# Altium schematic symbol library kmilo17pet-NSC_MiscPower.SchLib: 1552 symbols (part 39 of 43)
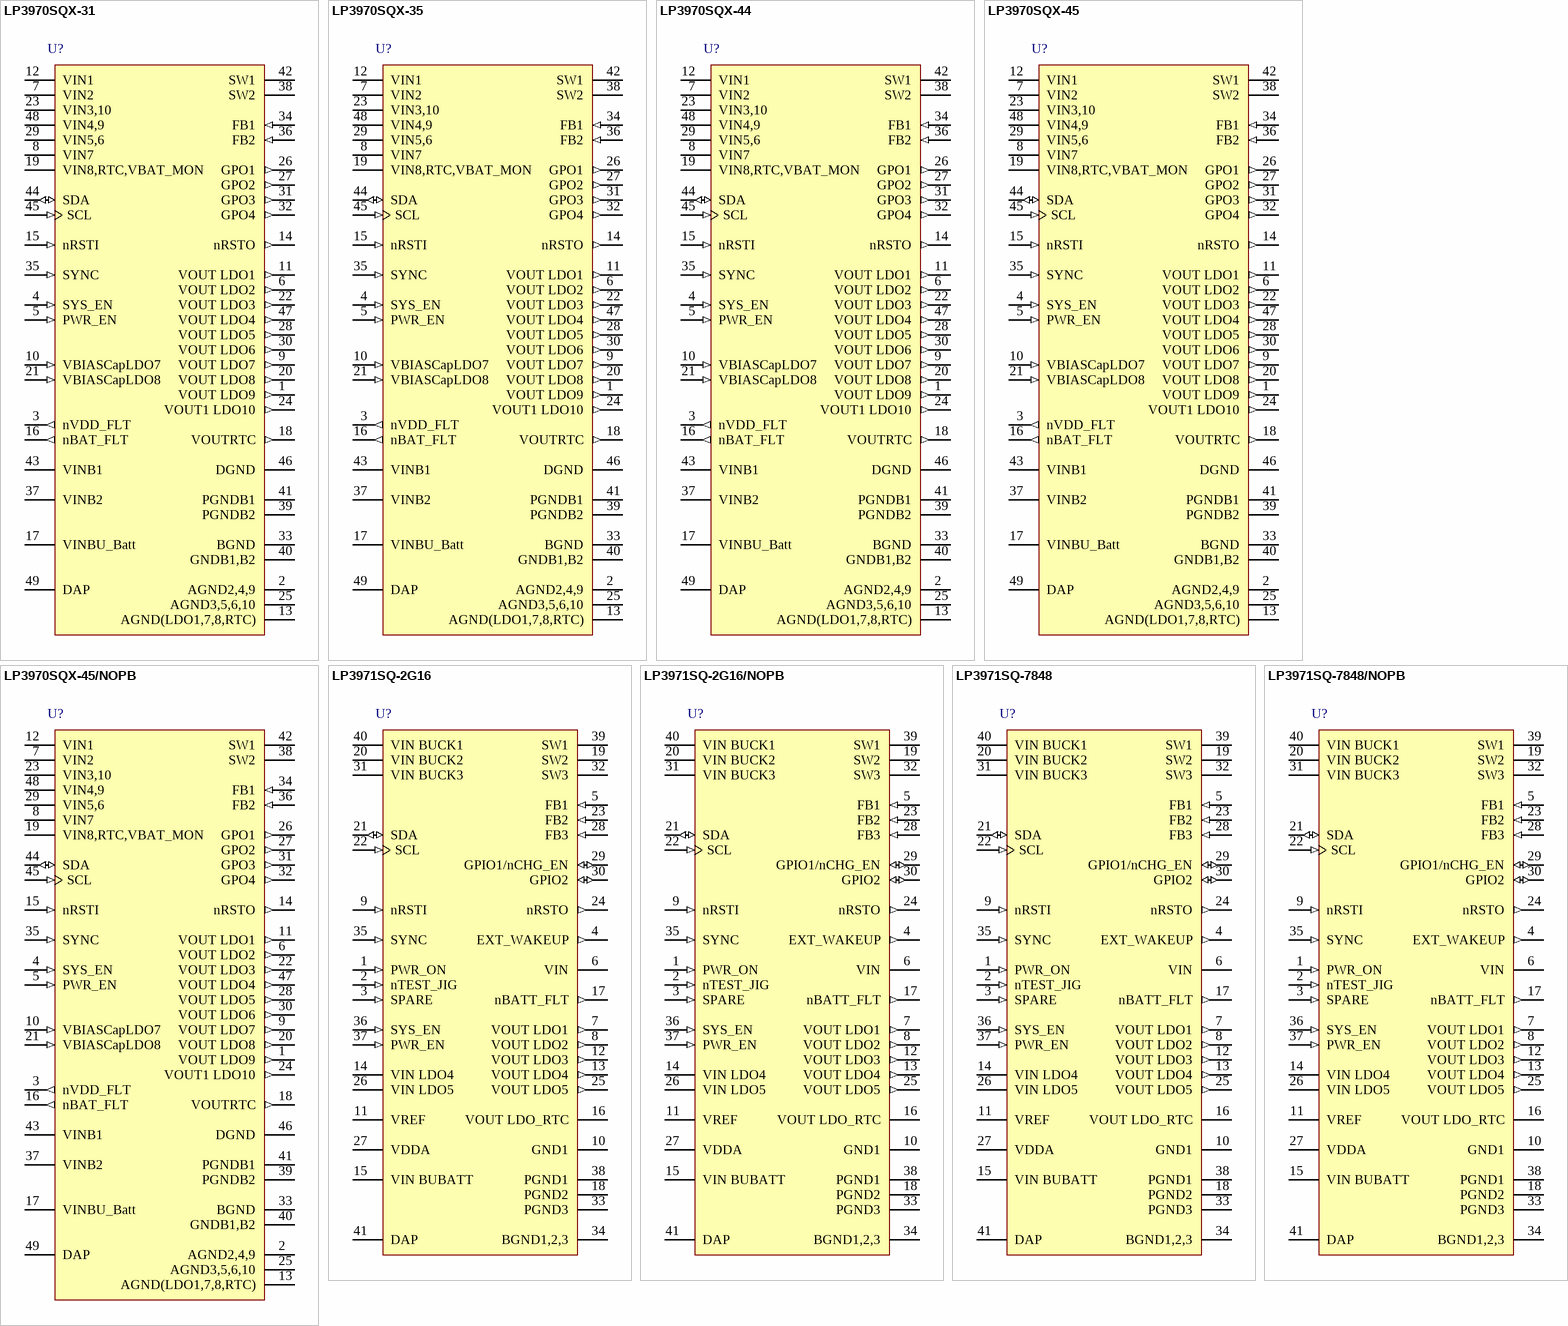
[diagram p95: symbols LP3970SQX-31 to LP3971SQ-7848/NOPB]

## LP3970SQX-31
designator U?
Power Management Unit for Advanced Application Processors, 48-pin LLP; PartNumber: LP3970SQX-31; Manufacturer: National Semiconductor; PackageTopMarking: NS*UZXYTTE#*3970-31; PowerWise: N; CompType: MiscPower; High-Reliability: Y; DatasheetVersion: Aug-2007; PackageVersion: revB, May-2009; PackageReference: SQA48A; PackageDescription: LLP, Plastic, Quad, 7 x 7 x 0.8mm Body, 48 Lead, 0.5mm Pitch, No Pullback; RoHS: N; PinCount: 48; Code_JEDEC: MO-220-WKKD-2; ComponentLink1Description: Manufacturer URL; ComponentLink1URL: http://www.national.com/; ComponentLink2Description: LP3970 Datasheet; ComponentLink2URL: http://www.national.com/ds/LP/LP3970.pdf; ComponentLink3Description: LP3970 Web Page; ComponentLink3URL: http://www.national.com/pf/LP/LP3970.html; ComponentLink4Description: SQA48A Package Page; ComponentLink4URL: http://www.national.com/packaging/folders/sqa48a.html
footprint SQA48A (QFN, 48-Leads, Body 7x7mm, Pitch 0.5mm, Thermal Pad 5.2x5.2mm, NSC Recommended)
pins: 1 VOUT LDO9 (out), 2 AGND2,4,9 (power), 3 nVDD_FLT (out), 4 SYS_EN (in), 5 PWR_EN (in), 6 VOUT LDO2 (out), 7 VIN2 (power), 8 VIN7 (power), 9 VOUT LDO7 (out), 10 VBIASCapLDO7 (in), 11 VOUT LDO1 (out), 12 VIN1 (power), 13 AGND(LDO1,7,8,RTC) (power), 14 nRSTO (out), 15 nRSTI (in), 16 nBAT_FLT (out), 17 VINBU_Batt (power), 18 VOUTRTC (out), 19 VIN8,RTC,VBAT_MON (power), 20 VOUT LDO8 (out), 21 VBIASCapLDO8 (in), 22 VOUT LDO3 (out), 23 VIN3,10 (power), 24 VOUT1 LDO10 (out), 25 AGND3,5,6,10 (power), 26 GPO1 (out), 27 GPO2 (out), 28 VOUT LDO5 (out), 29 VIN5,6 (power), 30 VOUT LDO6 (out), 31 GPO3 (out), 32 GPO4 (out), 33 BGND (power), 34 FB1 (in), 35 SYNC (in), 36 FB2 (in), 37 VINB2 (power), 38 SW2 (power), 39 PGNDB2 (power), 40 GNDB1,B2 (power), 41 PGNDB1 (power), 42 SW1 (power), 43 VINB1 (power), 44 SDA (io), 45 SCL (in), 46 DGND (power), 47 VOUT LDO4 (out), 48 VIN4,9 (power), 49 DAP (power)

## LP3970SQX-35
designator U?
Power Management Unit for Advanced Application Processors, 48-pin LLP; PartNumber: LP3970SQX-35; Manufacturer: National Semiconductor; PackageTopMarking: NS*UZXYTTE#*3970-35; PowerWise: N; CompType: MiscPower; High-Reliability: Y; DatasheetVersion: Aug-2007; PackageVersion: revB, May-2009; PackageReference: SQA48A; PackageDescription: LLP, Plastic, Quad, 7 x 7 x 0.8mm Body, 48 Lead, 0.5mm Pitch, No Pullback; RoHS: N; PinCount: 48; Code_JEDEC: MO-220-WKKD-2; ComponentLink1Description: Manufacturer URL; ComponentLink1URL: http://www.national.com/; ComponentLink2Description: LP3970 Datasheet; ComponentLink2URL: http://www.national.com/ds/LP/LP3970.pdf; ComponentLink3Description: LP3970 Web Page; ComponentLink3URL: http://www.national.com/pf/LP/LP3970.html; ComponentLink4Description: SQA48A Package Page; ComponentLink4URL: http://www.national.com/packaging/folders/sqa48a.html
footprint SQA48A (QFN, 48-Leads, Body 7x7mm, Pitch 0.5mm, Thermal Pad 5.2x5.2mm, NSC Recommended)
pins: 1 VOUT LDO9 (out), 2 AGND2,4,9 (power), 3 nVDD_FLT (out), 4 SYS_EN (in), 5 PWR_EN (in), 6 VOUT LDO2 (out), 7 VIN2 (power), 8 VIN7 (power), 9 VOUT LDO7 (out), 10 VBIASCapLDO7 (in), 11 VOUT LDO1 (out), 12 VIN1 (power), 13 AGND(LDO1,7,8,RTC) (power), 14 nRSTO (out), 15 nRSTI (in), 16 nBAT_FLT (out), 17 VINBU_Batt (power), 18 VOUTRTC (out), 19 VIN8,RTC,VBAT_MON (power), 20 VOUT LDO8 (out), 21 VBIASCapLDO8 (in), 22 VOUT LDO3 (out), 23 VIN3,10 (power), 24 VOUT1 LDO10 (out), 25 AGND3,5,6,10 (power), 26 GPO1 (out), 27 GPO2 (out), 28 VOUT LDO5 (out), 29 VIN5,6 (power), 30 VOUT LDO6 (out), 31 GPO3 (out), 32 GPO4 (out), 33 BGND (power), 34 FB1 (in), 35 SYNC (in), 36 FB2 (in), 37 VINB2 (power), 38 SW2 (power), 39 PGNDB2 (power), 40 GNDB1,B2 (power), 41 PGNDB1 (power), 42 SW1 (power), 43 VINB1 (power), 44 SDA (io), 45 SCL (in), 46 DGND (power), 47 VOUT LDO4 (out), 48 VIN4,9 (power), 49 DAP (power)

## LP3970SQX-44
designator U?
Power Management Unit for Advanced Application Processors, 48-pin LLP; PartNumber: LP3970SQX-44; Manufacturer: National Semiconductor; PackageTopMarking: NS*UZXYTTE#*3970-44; PowerWise: N; CompType: MiscPower; High-Reliability: Y; DatasheetVersion: Aug-2007; PackageVersion: revB, May-2009; PackageReference: SQA48A; PackageDescription: LLP, Plastic, Quad, 7 x 7 x 0.8mm Body, 48 Lead, 0.5mm Pitch, No Pullback; RoHS: N; PinCount: 48; Code_JEDEC: MO-220-WKKD-2; ComponentLink1Description: Manufacturer URL; ComponentLink1URL: http://www.national.com/; ComponentLink2Description: LP3970 Datasheet; ComponentLink2URL: http://www.national.com/ds/LP/LP3970.pdf; ComponentLink3Description: LP3970 Web Page; ComponentLink3URL: http://www.national.com/pf/LP/LP3970.html; ComponentLink4Description: SQA48A Package Page; ComponentLink4URL: http://www.national.com/packaging/folders/sqa48a.html
footprint SQA48A (QFN, 48-Leads, Body 7x7mm, Pitch 0.5mm, Thermal Pad 5.2x5.2mm, NSC Recommended)
pins: 1 VOUT LDO9 (out), 2 AGND2,4,9 (power), 3 nVDD_FLT (out), 4 SYS_EN (in), 5 PWR_EN (in), 6 VOUT LDO2 (out), 7 VIN2 (power), 8 VIN7 (power), 9 VOUT LDO7 (out), 10 VBIASCapLDO7 (in), 11 VOUT LDO1 (out), 12 VIN1 (power), 13 AGND(LDO1,7,8,RTC) (power), 14 nRSTO (out), 15 nRSTI (in), 16 nBAT_FLT (out), 17 VINBU_Batt (power), 18 VOUTRTC (out), 19 VIN8,RTC,VBAT_MON (power), 20 VOUT LDO8 (out), 21 VBIASCapLDO8 (in), 22 VOUT LDO3 (out), 23 VIN3,10 (power), 24 VOUT1 LDO10 (out), 25 AGND3,5,6,10 (power), 26 GPO1 (out), 27 GPO2 (out), 28 VOUT LDO5 (out), 29 VIN5,6 (power), 30 VOUT LDO6 (out), 31 GPO3 (out), 32 GPO4 (out), 33 BGND (power), 34 FB1 (in), 35 SYNC (in), 36 FB2 (in), 37 VINB2 (power), 38 SW2 (power), 39 PGNDB2 (power), 40 GNDB1,B2 (power), 41 PGNDB1 (power), 42 SW1 (power), 43 VINB1 (power), 44 SDA (io), 45 SCL (in), 46 DGND (power), 47 VOUT LDO4 (out), 48 VIN4,9 (power), 49 DAP (power)

## LP3970SQX-45
designator U?
Power Management Unit for Advanced Application Processors, 48-pin LLP; PartNumber: LP3970SQX-45; Manufacturer: National Semiconductor; PackageTopMarking: NS*UZXYTTE#*3970-45; PowerWise: N; CompType: MiscPower; High-Reliability: Y; DatasheetVersion: Aug-2007; PackageVersion: revB, May-2009; PackageReference: SQA48A; PackageDescription: LLP, Plastic, Quad, 7 x 7 x 0.8mm Body, 48 Lead, 0.5mm Pitch, No Pullback; RoHS: N; PinCount: 48; Code_JEDEC: MO-220-WKKD-2; ComponentLink1Description: Manufacturer URL; ComponentLink1URL: http://www.national.com/; ComponentLink2Description: LP3970 Datasheet; ComponentLink2URL: http://www.national.com/ds/LP/LP3970.pdf; ComponentLink3Description: LP3970 Web Page; ComponentLink3URL: http://www.national.com/pf/LP/LP3970.html; ComponentLink4Description: SQA48A Package Page; ComponentLink4URL: http://www.national.com/packaging/folders/sqa48a.html
footprint SQA48A (QFN, 48-Leads, Body 7x7mm, Pitch 0.5mm, Thermal Pad 5.2x5.2mm, NSC Recommended)
pins: 1 VOUT LDO9 (out), 2 AGND2,4,9 (power), 3 nVDD_FLT (out), 4 SYS_EN (in), 5 PWR_EN (in), 6 VOUT LDO2 (out), 7 VIN2 (power), 8 VIN7 (power), 9 VOUT LDO7 (out), 10 VBIASCapLDO7 (in), 11 VOUT LDO1 (out), 12 VIN1 (power), 13 AGND(LDO1,7,8,RTC) (power), 14 nRSTO (out), 15 nRSTI (in), 16 nBAT_FLT (out), 17 VINBU_Batt (power), 18 VOUTRTC (out), 19 VIN8,RTC,VBAT_MON (power), 20 VOUT LDO8 (out), 21 VBIASCapLDO8 (in), 22 VOUT LDO3 (out), 23 VIN3,10 (power), 24 VOUT1 LDO10 (out), 25 AGND3,5,6,10 (power), 26 GPO1 (out), 27 GPO2 (out), 28 VOUT LDO5 (out), 29 VIN5,6 (power), 30 VOUT LDO6 (out), 31 GPO3 (out), 32 GPO4 (out), 33 BGND (power), 34 FB1 (in), 35 SYNC (in), 36 FB2 (in), 37 VINB2 (power), 38 SW2 (power), 39 PGNDB2 (power), 40 GNDB1,B2 (power), 41 PGNDB1 (power), 42 SW1 (power), 43 VINB1 (power), 44 SDA (io), 45 SCL (in), 46 DGND (power), 47 VOUT LDO4 (out), 48 VIN4,9 (power), 49 DAP (power)

## LP3970SQX-45/NOPB
designator U?
Power Management Unit for Advanced Application Processors, 48-pin LLP, Pb-Free; PartNumber: LP3970SQX-45/NOPB; Manufacturer: National Semiconductor; PackageTopMarking: NS*UZXYTTE#*3970-45; PowerWise: N; CompType: MiscPower; High-Reliability: Y; DatasheetVersion: Aug-2007; PackageVersion: revB, May-2009; PackageReference: SQA48A; PackageDescription: LLP, Plastic, Quad, 7 x 7 x 0.8mm Body, 48 Lead, 0.5mm Pitch, No Pullback; RoHS: Y; PinCount: 48; Code_JEDEC: MO-220-WKKD-2; ComponentLink1Description: Manufacturer URL; ComponentLink1URL: http://www.national.com/; ComponentLink2Description: LP3970 Datasheet; ComponentLink2URL: http://www.national.com/ds/LP/LP3970.pdf; ComponentLink3Description: LP3970 Web Page; ComponentLink3URL: http://www.national.com/pf/LP/LP3970.html; ComponentLink4Description: SQA48A Package Page; ComponentLink4URL: http://www.national.com/packaging/folders/sqa48a.html
footprint SQA48A (QFN, 48-Leads, Body 7x7mm, Pitch 0.5mm, Thermal Pad 5.2x5.2mm, NSC Recommended)
pins: 1 VOUT LDO9 (out), 2 AGND2,4,9 (power), 3 nVDD_FLT (out), 4 SYS_EN (in), 5 PWR_EN (in), 6 VOUT LDO2 (out), 7 VIN2 (power), 8 VIN7 (power), 9 VOUT LDO7 (out), 10 VBIASCapLDO7 (in), 11 VOUT LDO1 (out), 12 VIN1 (power), 13 AGND(LDO1,7,8,RTC) (power), 14 nRSTO (out), 15 nRSTI (in), 16 nBAT_FLT (out), 17 VINBU_Batt (power), 18 VOUTRTC (out), 19 VIN8,RTC,VBAT_MON (power), 20 VOUT LDO8 (out), 21 VBIASCapLDO8 (in), 22 VOUT LDO3 (out), 23 VIN3,10 (power), 24 VOUT1 LDO10 (out), 25 AGND3,5,6,10 (power), 26 GPO1 (out), 27 GPO2 (out), 28 VOUT LDO5 (out), 29 VIN5,6 (power), 30 VOUT LDO6 (out), 31 GPO3 (out), 32 GPO4 (out), 33 BGND (power), 34 FB1 (in), 35 SYNC (in), 36 FB2 (in), 37 VINB2 (power), 38 SW2 (power), 39 PGNDB2 (power), 40 GNDB1,B2 (power), 41 PGNDB1 (power), 42 SW1 (power), 43 VINB1 (power), 44 SDA (io), 45 SCL (in), 46 DGND (power), 47 VOUT LDO4 (out), 48 VIN4,9 (power), 49 DAP (power)

## LP3971SQ-2G16
designator U?
Power Management Unit for Advanced Application Processor, 40-pin LLP; PartNumber: LP3971SQ-2G16; Manufacturer: National Semiconductor; PackageTopMarking: NS*UZXYTT*71-2G16; PowerWise: N; CompType: MiscPower; High-Reliability: Y; DatasheetVersion: Oct-2008; PackageVersion: revB, Jul-2004; PackageReference: SQF40A; PackageDescription: LLP, Quad, 5 x 5 x 0.8mm Body, 40 Lead, 0.4mm Pitch, 3.6 x 3.6mm Exposed Pad; RoHS: Y; PinCount: 40; ComponentLink1Description: Manufacturer URL; ComponentLink1URL: http://www.national.com/; ComponentLink2Description: LP3971 Datasheet; ComponentLink2URL: http://www.national.com/ds/LP/LP3971.pdf; ComponentLink3Description: LP3971 Web Page; ComponentLink3URL: http://www.national.com/pf/LP/LP3971.html; ComponentLink4Description: SQF40A Package Page; ComponentLink4URL: http://www.national.com/packaging/folders/sqf40a.html
footprint SQF40A (QFN, 41-Leads, Body 5x5mm, Pitch 0.4mm, Thermal Pad 3.6x3.6mm, NSC Recommended)
pins: 1 PWR_ON (in), 2 nTEST_JIG (in), 3 SPARE (in), 4 EXT_WAKEUP (out), 5 FB1 (in), 6 VIN (power), 7 VOUT LDO1 (out), 8 VOUT LDO2 (out), 9 nRSTI (in), 10 GND1 (power), 11 VREF, 12 VOUT LDO3 (out), 13 VOUT LDO4 (out), 14 VIN LDO4 (power), 15 VIN BUBATT (power), 16 VOUT LDO_RTC (power), 17 nBATT_FLT (out), 18 PGND2 (power), 19 SW2 (power), 20 VIN BUCK2 (power), 21 SDA (io), 22 SCL (in), 23 FB2 (in), 24 nRSTO (out), 25 VOUT LDO5 (out), 26 VIN LDO5 (power), 27 VDDA (power), 28 FB3 (in), 29 GPIO1/nCHG_EN (io), 30 GPIO2 (io), 31 VIN BUCK3 (power), 32 SW3 (power), 33 PGND3 (power), 34 BGND1,2,3 (power), 35 SYNC (in), 36 SYS_EN (in), 37 PWR_EN (in), 38 PGND1 (power), 39 SW1 (power), 40 VIN BUCK1 (power), 41 DAP (power)

## LP3971SQ-2G16/NOPB
designator U?
Power Management Unit for Advanced Application Processors, 40-pin LLP, Pb-Free; PartNumber: LP3971SQ-2G16/NOPB; Manufacturer: National Semiconductor; PackageTopMarking: NS*UZXYTT*71-2G16; PowerWise: N; CompType: MiscPower; High-Reliability: Y; DatasheetVersion: Oct-2008; PackageVersion: revB, Jul-2004; PackageReference: SQF40A; PackageDescription: LLP, Quad, 5 x 5 x 0.8mm Body, 40 Lead, 0.4mm Pitch, 3.6 x 3.6mm Exposed Pad; RoHS: Y; PinCount: 40; ComponentLink1Description: Manufacturer URL; ComponentLink1URL: http://www.national.com/; ComponentLink2Description: LP3971 Datasheet; ComponentLink2URL: http://www.national.com/ds/LP/LP3971.pdf; ComponentLink3Description: LP3971 Web Page; ComponentLink3URL: http://www.national.com/pf/LP/LP3971.html; ComponentLink4Description: SQF40A Package Page; ComponentLink4URL: http://www.national.com/packaging/folders/sqf40a.html
footprint SQF40A (QFN, 41-Leads, Body 5x5mm, Pitch 0.4mm, Thermal Pad 3.6x3.6mm, NSC Recommended)
pins: 1 PWR_ON (in), 2 nTEST_JIG (in), 3 SPARE (in), 4 EXT_WAKEUP (out), 5 FB1 (in), 6 VIN (power), 7 VOUT LDO1 (out), 8 VOUT LDO2 (out), 9 nRSTI (in), 10 GND1 (power), 11 VREF, 12 VOUT LDO3 (out), 13 VOUT LDO4 (out), 14 VIN LDO4 (power), 15 VIN BUBATT (power), 16 VOUT LDO_RTC (power), 17 nBATT_FLT (out), 18 PGND2 (power), 19 SW2 (power), 20 VIN BUCK2 (power), 21 SDA (io), 22 SCL (in), 23 FB2 (in), 24 nRSTO (out), 25 VOUT LDO5 (out), 26 VIN LDO5 (power), 27 VDDA (power), 28 FB3 (in), 29 GPIO1/nCHG_EN (io), 30 GPIO2 (io), 31 VIN BUCK3 (power), 32 SW3 (power), 33 PGND3 (power), 34 BGND1,2,3 (power), 35 SYNC (in), 36 SYS_EN (in), 37 PWR_EN (in), 38 PGND1 (power), 39 SW1 (power), 40 VIN BUCK1 (power), 41 DAP (power)

## LP3971SQ-7848
designator U?
Power Management Unit for Advanced Application Processor, 40-pin LLP; PartNumber: LP3971SQ-7848; Manufacturer: National Semiconductor; PackageTopMarking: NS*UZXYTT*71-7848; PowerWise: N; CompType: MiscPower; High-Reliability: Y; DatasheetVersion: Oct-2008; PackageVersion: revB, Jul-2004; PackageReference: SQF40A; PackageDescription: LLP, Quad, 5 x 5 x 0.8mm Body, 40 Lead, 0.4mm Pitch, 3.6 x 3.6mm Exposed Pad; RoHS: Y; PinCount: 40; ComponentLink1Description: Manufacturer URL; ComponentLink1URL: http://www.national.com/; ComponentLink2Description: LP3971 Datasheet; ComponentLink2URL: http://www.national.com/ds/LP/LP3971.pdf; ComponentLink3Description: LP3971 Web Page; ComponentLink3URL: http://www.national.com/pf/LP/LP3971.html; ComponentLink4Description: SQF40A Package Page; ComponentLink4URL: http://www.national.com/packaging/folders/sqf40a.html
footprint SQF40A (QFN, 41-Leads, Body 5x5mm, Pitch 0.4mm, Thermal Pad 3.6x3.6mm, NSC Recommended)
pins: 1 PWR_ON (in), 2 nTEST_JIG (in), 3 SPARE (in), 4 EXT_WAKEUP (out), 5 FB1 (in), 6 VIN (power), 7 VOUT LDO1 (out), 8 VOUT LDO2 (out), 9 nRSTI (in), 10 GND1 (power), 11 VREF, 12 VOUT LDO3 (out), 13 VOUT LDO4 (out), 14 VIN LDO4 (power), 15 VIN BUBATT (power), 16 VOUT LDO_RTC (power), 17 nBATT_FLT (out), 18 PGND2 (power), 19 SW2 (power), 20 VIN BUCK2 (power), 21 SDA (io), 22 SCL (in), 23 FB2 (in), 24 nRSTO (out), 25 VOUT LDO5 (out), 26 VIN LDO5 (power), 27 VDDA (power), 28 FB3 (in), 29 GPIO1/nCHG_EN (io), 30 GPIO2 (io), 31 VIN BUCK3 (power), 32 SW3 (power), 33 PGND3 (power), 34 BGND1,2,3 (power), 35 SYNC (in), 36 SYS_EN (in), 37 PWR_EN (in), 38 PGND1 (power), 39 SW1 (power), 40 VIN BUCK1 (power), 41 DAP (power)

## LP3971SQ-7848/NOPB
designator U?
Power Management Unit for Advanced Application Processors, 40-pin LLP, Pb-Free; PartNumber: LP3971SQ-7848/NOPB; Manufacturer: National Semiconductor; PackageTopMarking: NS*UZXYTT*71-7848; PowerWise: N; CompType: MiscPower; High-Reliability: Y; DatasheetVersion: Oct-2008; PackageVersion: revB, Jul-2004; PackageReference: SQF40A; PackageDescription: LLP, Quad, 5 x 5 x 0.8mm Body, 40 Lead, 0.4mm Pitch, 3.6 x 3.6mm Exposed Pad; RoHS: Y; PinCount: 40; ComponentLink1Description: Manufacturer URL; ComponentLink1URL: http://www.national.com/; ComponentLink2Description: LP3971 Datasheet; ComponentLink2URL: http://www.national.com/ds/LP/LP3971.pdf; ComponentLink3Description: LP3971 Web Page; ComponentLink3URL: http://www.national.com/pf/LP/LP3971.html; ComponentLink4Description: SQF40A Package Page; ComponentLink4URL: http://www.national.com/packaging/folders/sqf40a.html
footprint SQF40A (QFN, 41-Leads, Body 5x5mm, Pitch 0.4mm, Thermal Pad 3.6x3.6mm, NSC Recommended)
pins: 1 PWR_ON (in), 2 nTEST_JIG (in), 3 SPARE (in), 4 EXT_WAKEUP (out), 5 FB1 (in), 6 VIN (power), 7 VOUT LDO1 (out), 8 VOUT LDO2 (out), 9 nRSTI (in), 10 GND1 (power), 11 VREF, 12 VOUT LDO3 (out), 13 VOUT LDO4 (out), 14 VIN LDO4 (power), 15 VIN BUBATT (power), 16 VOUT LDO_RTC (power), 17 nBATT_FLT (out), 18 PGND2 (power), 19 SW2 (power), 20 VIN BUCK2 (power), 21 SDA (io), 22 SCL (in), 23 FB2 (in), 24 nRSTO (out), 25 VOUT LDO5 (out), 26 VIN LDO5 (power), 27 VDDA (power), 28 FB3 (in), 29 GPIO1/nCHG_EN (io), 30 GPIO2 (io), 31 VIN BUCK3 (power), 32 SW3 (power), 33 PGND3 (power), 34 BGND1,2,3 (power), 35 SYNC (in), 36 SYS_EN (in), 37 PWR_EN (in), 38 PGND1 (power), 39 SW1 (power), 40 VIN BUCK1 (power), 41 DAP (power)

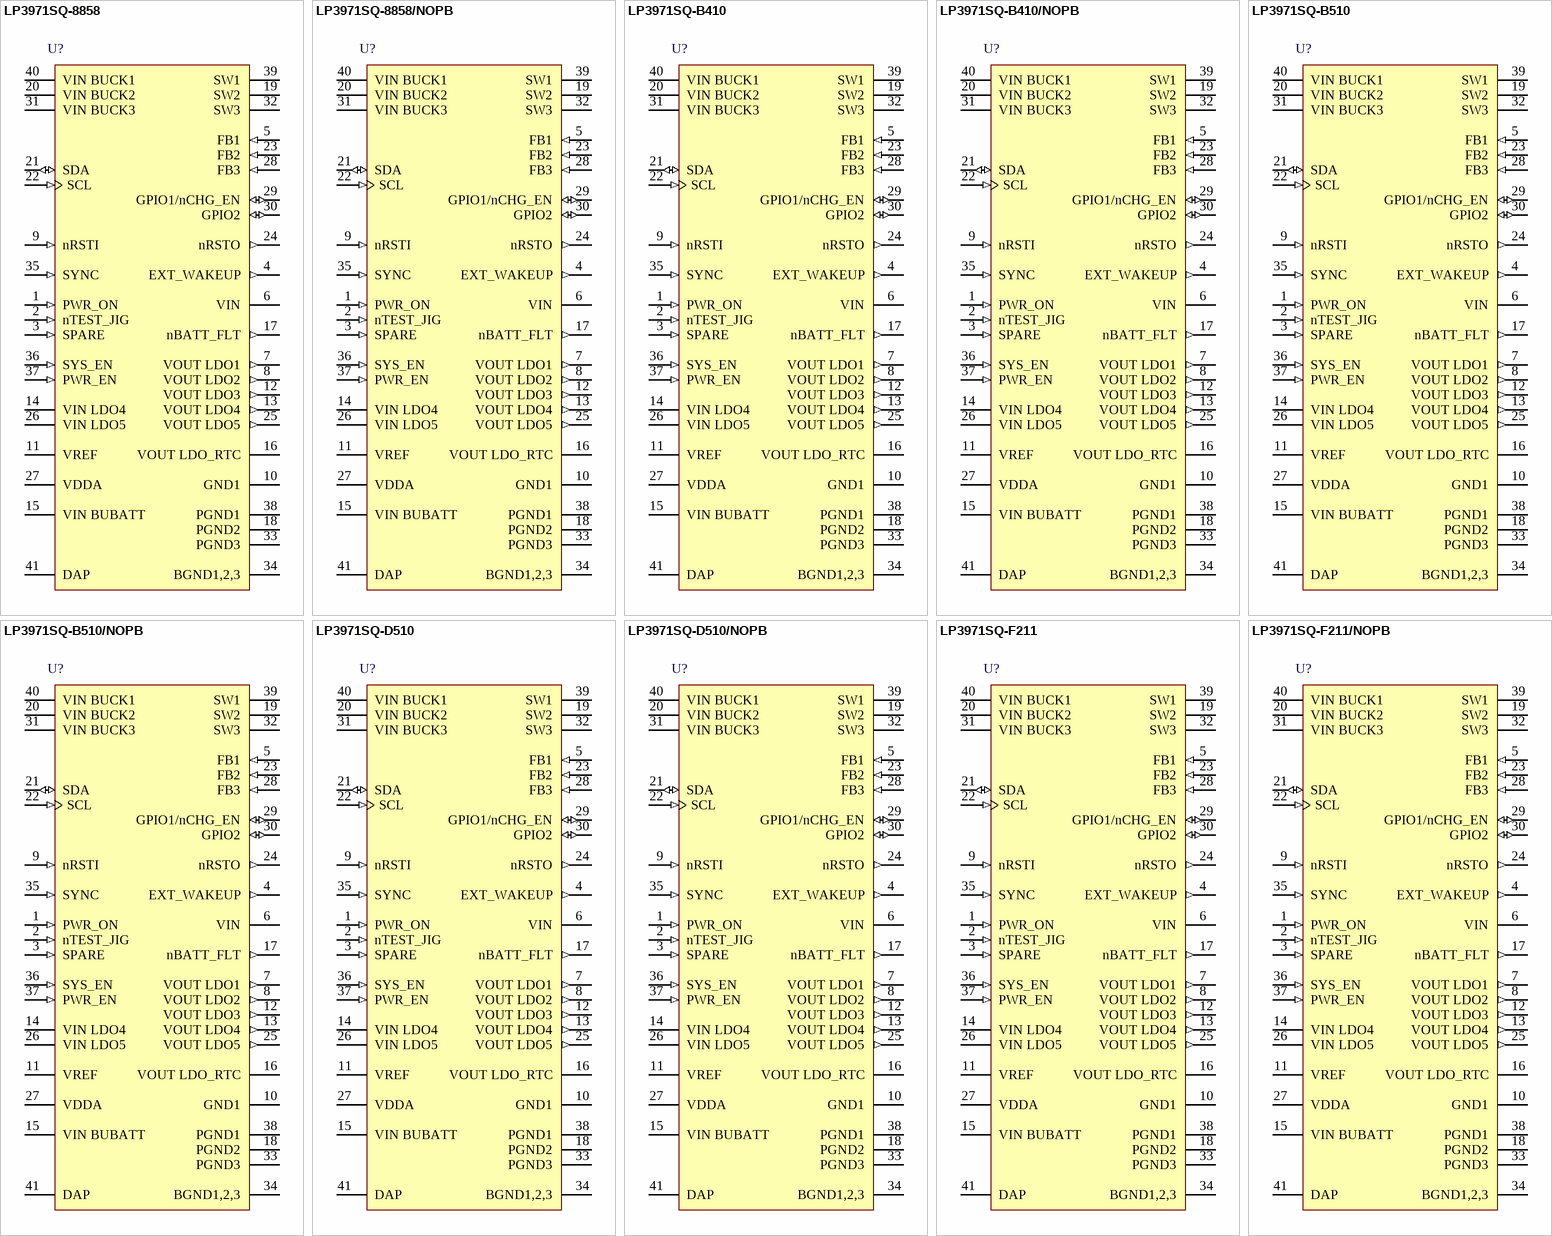
[diagram p48: symbols LP3971SQ-8858 to LP3971SQ-F211/NOPB]

## LP3971SQ-8858
designator U?
Power Management Unit for Advanced Application Processor, 40-pin LLP; PartNumber: LP3971SQ-8858; Manufacturer: National Semiconductor; PackageTopMarking: NS*UZXYTT*71-8858; PowerWise: N; CompType: MiscPower; High-Reliability: Y; DatasheetVersion: Oct-2008; PackageVersion: revB, Jul-2004; PackageReference: SQF40A; PackageDescription: LLP, Quad, 5 x 5 x 0.8mm Body, 40 Lead, 0.4mm Pitch, 3.6 x 3.6mm Exposed Pad; RoHS: Y; PinCount: 40; ComponentLink1Description: Manufacturer URL; ComponentLink1URL: http://www.national.com/; ComponentLink2Description: LP3971 Datasheet; ComponentLink2URL: http://www.national.com/ds/LP/LP3971.pdf; ComponentLink3Description: LP3971 Web Page; ComponentLink3URL: http://www.national.com/pf/LP/LP3971.html; ComponentLink4Description: SQF40A Package Page; ComponentLink4URL: http://www.national.com/packaging/folders/sqf40a.html
footprint SQF40A (QFN, 41-Leads, Body 5x5mm, Pitch 0.4mm, Thermal Pad 3.6x3.6mm, NSC Recommended)
pins: 1 PWR_ON (in), 2 nTEST_JIG (in), 3 SPARE (in), 4 EXT_WAKEUP (out), 5 FB1 (in), 6 VIN (power), 7 VOUT LDO1 (out), 8 VOUT LDO2 (out), 9 nRSTI (in), 10 GND1 (power), 11 VREF, 12 VOUT LDO3 (out), 13 VOUT LDO4 (out), 14 VIN LDO4 (power), 15 VIN BUBATT (power), 16 VOUT LDO_RTC (power), 17 nBATT_FLT (out), 18 PGND2 (power), 19 SW2 (power), 20 VIN BUCK2 (power), 21 SDA (io), 22 SCL (in), 23 FB2 (in), 24 nRSTO (out), 25 VOUT LDO5 (out), 26 VIN LDO5 (power), 27 VDDA (power), 28 FB3 (in), 29 GPIO1/nCHG_EN (io), 30 GPIO2 (io), 31 VIN BUCK3 (power), 32 SW3 (power), 33 PGND3 (power), 34 BGND1,2,3 (power), 35 SYNC (in), 36 SYS_EN (in), 37 PWR_EN (in), 38 PGND1 (power), 39 SW1 (power), 40 VIN BUCK1 (power), 41 DAP (power)

## LP3971SQ-8858/NOPB
designator U?
Power Management Unit for Advanced Application Processors, 40-pin LLP, Pb-Free; PartNumber: LP3971SQ-8858/NOPB; Manufacturer: National Semiconductor; PackageTopMarking: NS*UZXYTT*71-8858; PowerWise: N; CompType: MiscPower; High-Reliability: Y; DatasheetVersion: Oct-2008; PackageVersion: revB, Jul-2004; PackageReference: SQF40A; PackageDescription: LLP, Quad, 5 x 5 x 0.8mm Body, 40 Lead, 0.4mm Pitch, 3.6 x 3.6mm Exposed Pad; RoHS: Y; PinCount: 40; ComponentLink1Description: Manufacturer URL; ComponentLink1URL: http://www.national.com/; ComponentLink2Description: LP3971 Datasheet; ComponentLink2URL: http://www.national.com/ds/LP/LP3971.pdf; ComponentLink3Description: LP3971 Web Page; ComponentLink3URL: http://www.national.com/pf/LP/LP3971.html; ComponentLink4Description: SQF40A Package Page; ComponentLink4URL: http://www.national.com/packaging/folders/sqf40a.html
footprint SQF40A (QFN, 41-Leads, Body 5x5mm, Pitch 0.4mm, Thermal Pad 3.6x3.6mm, NSC Recommended)
pins: 1 PWR_ON (in), 2 nTEST_JIG (in), 3 SPARE (in), 4 EXT_WAKEUP (out), 5 FB1 (in), 6 VIN (power), 7 VOUT LDO1 (out), 8 VOUT LDO2 (out), 9 nRSTI (in), 10 GND1 (power), 11 VREF, 12 VOUT LDO3 (out), 13 VOUT LDO4 (out), 14 VIN LDO4 (power), 15 VIN BUBATT (power), 16 VOUT LDO_RTC (power), 17 nBATT_FLT (out), 18 PGND2 (power), 19 SW2 (power), 20 VIN BUCK2 (power), 21 SDA (io), 22 SCL (in), 23 FB2 (in), 24 nRSTO (out), 25 VOUT LDO5 (out), 26 VIN LDO5 (power), 27 VDDA (power), 28 FB3 (in), 29 GPIO1/nCHG_EN (io), 30 GPIO2 (io), 31 VIN BUCK3 (power), 32 SW3 (power), 33 PGND3 (power), 34 BGND1,2,3 (power), 35 SYNC (in), 36 SYS_EN (in), 37 PWR_EN (in), 38 PGND1 (power), 39 SW1 (power), 40 VIN BUCK1 (power), 41 DAP (power)

## LP3971SQ-B410
designator U?
Power Management Unit for Advanced Application Processor, 40-pin LLP; PartNumber: LP3971SQ-B410; Manufacturer: National Semiconductor; PackageTopMarking: NS*UZXYTT*71-B410; PowerWise: Y; CompType: MiscPower; DatasheetVersion: Oct-2008; PackageVersion: revB, Jul-2004; PackageReference: SQF40A; PackageDescription: LLP, Quad, 5 x 5 x 0.8mm Body, 40 Lead, 0.4mm Pitch, 3.6 x 3.6mm Exposed Pad; RoHS: N; PinCount: 40; High-Reliability: Y; ComponentLink1Description: Manufacturer URL; ComponentLink1URL: http://www.national.com/; ComponentLink2Description: LP3971 Datasheet; ComponentLink2URL: http://www.national.com/ds/LP/LP3971.pdf; ComponentLink3Description: LP3971 Web Page; ComponentLink3URL: http://www.national.com/pf/LP/LP3971.html; ComponentLink4Description: SQF40A Package Page; ComponentLink4URL: http://www.national.com/packaging/folders/sqf40a.html
footprint SQF40A (QFN, 41-Leads, Body 5x5mm, Pitch 0.4mm, Thermal Pad 3.6x3.6mm, NSC Recommended)
pins: 1 PWR_ON (in), 2 nTEST_JIG (in), 3 SPARE (in), 4 EXT_WAKEUP (out), 5 FB1 (in), 6 VIN (power), 7 VOUT LDO1 (out), 8 VOUT LDO2 (out), 9 nRSTI (in), 10 GND1 (power), 11 VREF, 12 VOUT LDO3 (out), 13 VOUT LDO4 (out), 14 VIN LDO4 (power), 15 VIN BUBATT (power), 16 VOUT LDO_RTC (power), 17 nBATT_FLT (out), 18 PGND2 (power), 19 SW2 (power), 20 VIN BUCK2 (power), 21 SDA (io), 22 SCL (in), 23 FB2 (in), 24 nRSTO (out), 25 VOUT LDO5 (out), 26 VIN LDO5 (power), 27 VDDA (power), 28 FB3 (in), 29 GPIO1/nCHG_EN (io), 30 GPIO2 (io), 31 VIN BUCK3 (power), 32 SW3 (power), 33 PGND3 (power), 34 BGND1,2,3 (power), 35 SYNC (in), 36 SYS_EN (in), 37 PWR_EN (in), 38 PGND1 (power), 39 SW1 (power), 40 VIN BUCK1 (power), 41 DAP (power)

## LP3971SQ-B410/NOPB
designator U?
Power Management Unit for Advanced Application Processors, 40-pin LLP, Pb-Free; PartNumber: LP3971SQ-B410/NOPB; Manufacturer: National Semiconductor; PackageTopMarking: NS*UZXYTT*71-B410; PowerWise: Y; CompType: MiscPower; DatasheetVersion: Oct-2008; PackageVersion: revB, Jul-2004; PackageReference: SQF40A; PackageDescription: LLP, Quad, 5 x 5 x 0.8mm Body, 40 Lead, 0.4mm Pitch, 3.6 x 3.6mm Exposed Pad; RoHS: Y; PinCount: 40; High-Reliability: Y; ComponentLink1Description: Manufacturer URL; ComponentLink1URL: http://www.national.com/; ComponentLink2Description: LP3971 Datasheet; ComponentLink2URL: http://www.national.com/ds/LP/LP3971.pdf; ComponentLink3Description: LP3971 Web Page; ComponentLink3URL: http://www.national.com/pf/LP/LP3971.html; ComponentLink4Description: SQF40A Package Page; ComponentLink4URL: http://www.national.com/packaging/folders/sqf40a.html
footprint SQF40A (QFN, 41-Leads, Body 5x5mm, Pitch 0.4mm, Thermal Pad 3.6x3.6mm, NSC Recommended)
pins: 1 PWR_ON (in), 2 nTEST_JIG (in), 3 SPARE (in), 4 EXT_WAKEUP (out), 5 FB1 (in), 6 VIN (power), 7 VOUT LDO1 (out), 8 VOUT LDO2 (out), 9 nRSTI (in), 10 GND1 (power), 11 VREF, 12 VOUT LDO3 (out), 13 VOUT LDO4 (out), 14 VIN LDO4 (power), 15 VIN BUBATT (power), 16 VOUT LDO_RTC (power), 17 nBATT_FLT (out), 18 PGND2 (power), 19 SW2 (power), 20 VIN BUCK2 (power), 21 SDA (io), 22 SCL (in), 23 FB2 (in), 24 nRSTO (out), 25 VOUT LDO5 (out), 26 VIN LDO5 (power), 27 VDDA (power), 28 FB3 (in), 29 GPIO1/nCHG_EN (io), 30 GPIO2 (io), 31 VIN BUCK3 (power), 32 SW3 (power), 33 PGND3 (power), 34 BGND1,2,3 (power), 35 SYNC (in), 36 SYS_EN (in), 37 PWR_EN (in), 38 PGND1 (power), 39 SW1 (power), 40 VIN BUCK1 (power), 41 DAP (power)

## LP3971SQ-B510
designator U?
Power Management Unit for Advanced Application Processor, 40-pin LLP; PartNumber: LP3971SQ-B510; Manufacturer: National Semiconductor; PackageTopMarking: NS*UZXYTT*71-B510; PowerWise: N; CompType: MiscPower; High-Reliability: Y; DatasheetVersion: Oct-2008; PackageVersion: revB, Jul-2004; PackageReference: SQF40A; PackageDescription: LLP, Quad, 5 x 5 x 0.8mm Body, 40 Lead, 0.4mm Pitch, 3.6 x 3.6mm Exposed Pad; RoHS: Y; PinCount: 40; ComponentLink1Description: Manufacturer URL; ComponentLink1URL: http://www.national.com/; ComponentLink2Description: LP3971 Datasheet; ComponentLink2URL: http://www.national.com/ds/LP/LP3971.pdf; ComponentLink3Description: LP3971 Web Page; ComponentLink3URL: http://www.national.com/pf/LP/LP3971.html; ComponentLink4Description: SQF40A Package Page; ComponentLink4URL: http://www.national.com/packaging/folders/sqf40a.html
footprint SQF40A (QFN, 41-Leads, Body 5x5mm, Pitch 0.4mm, Thermal Pad 3.6x3.6mm, NSC Recommended)
pins: 1 PWR_ON (in), 2 nTEST_JIG (in), 3 SPARE (in), 4 EXT_WAKEUP (out), 5 FB1 (in), 6 VIN (power), 7 VOUT LDO1 (out), 8 VOUT LDO2 (out), 9 nRSTI (in), 10 GND1 (power), 11 VREF, 12 VOUT LDO3 (out), 13 VOUT LDO4 (out), 14 VIN LDO4 (power), 15 VIN BUBATT (power), 16 VOUT LDO_RTC (power), 17 nBATT_FLT (out), 18 PGND2 (power), 19 SW2 (power), 20 VIN BUCK2 (power), 21 SDA (io), 22 SCL (in), 23 FB2 (in), 24 nRSTO (out), 25 VOUT LDO5 (out), 26 VIN LDO5 (power), 27 VDDA (power), 28 FB3 (in), 29 GPIO1/nCHG_EN (io), 30 GPIO2 (io), 31 VIN BUCK3 (power), 32 SW3 (power), 33 PGND3 (power), 34 BGND1,2,3 (power), 35 SYNC (in), 36 SYS_EN (in), 37 PWR_EN (in), 38 PGND1 (power), 39 SW1 (power), 40 VIN BUCK1 (power), 41 DAP (power)

## LP3971SQ-B510/NOPB
designator U?
Power Management Unit for Advanced Application Processors, 40-pin LLP, Pb-Free; PartNumber: LP3971SQ-B510/NOPB; Manufacturer: National Semiconductor; PackageTopMarking: NS*UZXYTT*71-B510; PowerWise: N; CompType: MiscPower; High-Reliability: Y; DatasheetVersion: Oct-2008; PackageVersion: revB, Jul-2004; PackageReference: SQF40A; PackageDescription: LLP, Quad, 5 x 5 x 0.8mm Body, 40 Lead, 0.4mm Pitch, 3.6 x 3.6mm Exposed Pad; RoHS: Y; PinCount: 40; ComponentLink1Description: Manufacturer URL; ComponentLink1URL: http://www.national.com/; ComponentLink2Description: LP3971 Datasheet; ComponentLink2URL: http://www.national.com/ds/LP/LP3971.pdf; ComponentLink3Description: LP3971 Web Page; ComponentLink3URL: http://www.national.com/pf/LP/LP3971.html; ComponentLink4Description: SQF40A Package Page; ComponentLink4URL: http://www.national.com/packaging/folders/sqf40a.html
footprint SQF40A (QFN, 41-Leads, Body 5x5mm, Pitch 0.4mm, Thermal Pad 3.6x3.6mm, NSC Recommended)
pins: 1 PWR_ON (in), 2 nTEST_JIG (in), 3 SPARE (in), 4 EXT_WAKEUP (out), 5 FB1 (in), 6 VIN (power), 7 VOUT LDO1 (out), 8 VOUT LDO2 (out), 9 nRSTI (in), 10 GND1 (power), 11 VREF, 12 VOUT LDO3 (out), 13 VOUT LDO4 (out), 14 VIN LDO4 (power), 15 VIN BUBATT (power), 16 VOUT LDO_RTC (power), 17 nBATT_FLT (out), 18 PGND2 (power), 19 SW2 (power), 20 VIN BUCK2 (power), 21 SDA (io), 22 SCL (in), 23 FB2 (in), 24 nRSTO (out), 25 VOUT LDO5 (out), 26 VIN LDO5 (power), 27 VDDA (power), 28 FB3 (in), 29 GPIO1/nCHG_EN (io), 30 GPIO2 (io), 31 VIN BUCK3 (power), 32 SW3 (power), 33 PGND3 (power), 34 BGND1,2,3 (power), 35 SYNC (in), 36 SYS_EN (in), 37 PWR_EN (in), 38 PGND1 (power), 39 SW1 (power), 40 VIN BUCK1 (power), 41 DAP (power)

## LP3971SQ-D510
designator U?
Power Management Unit for Advanced Application Processor, 40-pin LLP; PartNumber: LP3971SQ-D510; Manufacturer: National Semiconductor; PackageTopMarking: NS*UZXYTT*71-D510; PowerWise: N; CompType: MiscPower; High-Reliability: Y; DatasheetVersion: Oct-2008; PackageVersion: revB, Jul-2004; PackageReference: SQF40A; PackageDescription: LLP, Quad, 5 x 5 x 0.8mm Body, 40 Lead, 0.4mm Pitch, 3.6 x 3.6mm Exposed Pad; RoHS: N; PinCount: 40; ComponentLink1Description: Manufacturer URL; ComponentLink1URL: http://www.national.com/; ComponentLink2Description: LP3971 Datasheet; ComponentLink2URL: http://www.national.com/ds/LP/LP3971.pdf; ComponentLink3Description: LP3971 Web Page; ComponentLink3URL: http://www.national.com/pf/LP/LP3971.html; ComponentLink4Description: SQF40A Package Page; ComponentLink4URL: http://www.national.com/packaging/folders/sqf40a.html
footprint SQF40A (QFN, 41-Leads, Body 5x5mm, Pitch 0.4mm, Thermal Pad 3.6x3.6mm, NSC Recommended)
pins: 1 PWR_ON (in), 2 nTEST_JIG (in), 3 SPARE (in), 4 EXT_WAKEUP (out), 5 FB1 (in), 6 VIN (power), 7 VOUT LDO1 (out), 8 VOUT LDO2 (out), 9 nRSTI (in), 10 GND1 (power), 11 VREF, 12 VOUT LDO3 (out), 13 VOUT LDO4 (out), 14 VIN LDO4 (power), 15 VIN BUBATT (power), 16 VOUT LDO_RTC (power), 17 nBATT_FLT (out), 18 PGND2 (power), 19 SW2 (power), 20 VIN BUCK2 (power), 21 SDA (io), 22 SCL (in), 23 FB2 (in), 24 nRSTO (out), 25 VOUT LDO5 (out), 26 VIN LDO5 (power), 27 VDDA (power), 28 FB3 (in), 29 GPIO1/nCHG_EN (io), 30 GPIO2 (io), 31 VIN BUCK3 (power), 32 SW3 (power), 33 PGND3 (power), 34 BGND1,2,3 (power), 35 SYNC (in), 36 SYS_EN (in), 37 PWR_EN (in), 38 PGND1 (power), 39 SW1 (power), 40 VIN BUCK1 (power), 41 DAP (power)

## LP3971SQ-D510/NOPB
designator U?
Power Management Unit for Advanced Application Processors, 40-pin LLP, Pb-Free; PartNumber: LP3971SQ-D510/NOPB; Manufacturer: National Semiconductor; PackageTopMarking: NS*UZXYTT*71-D510; PowerWise: N; CompType: MiscPower; High-Reliability: Y; DatasheetVersion: Oct-2008; PackageVersion: revB, Jul-2004; PackageReference: SQF40A; PackageDescription: LLP, Quad, 5 x 5 x 0.8mm Body, 40 Lead, 0.4mm Pitch, 3.6 x 3.6mm Exposed Pad; RoHS: Y; PinCount: 40; ComponentLink1Description: Manufacturer URL; ComponentLink1URL: http://www.national.com/; ComponentLink2Description: LP3971 Datasheet; ComponentLink2URL: http://www.national.com/ds/LP/LP3971.pdf; ComponentLink3Description: LP3971 Web Page; ComponentLink3URL: http://www.national.com/pf/LP/LP3971.html; ComponentLink4Description: SQF40A Package Page; ComponentLink4URL: http://www.national.com/packaging/folders/sqf40a.html
footprint SQF40A (QFN, 41-Leads, Body 5x5mm, Pitch 0.4mm, Thermal Pad 3.6x3.6mm, NSC Recommended)
pins: 1 PWR_ON (in), 2 nTEST_JIG (in), 3 SPARE (in), 4 EXT_WAKEUP (out), 5 FB1 (in), 6 VIN (power), 7 VOUT LDO1 (out), 8 VOUT LDO2 (out), 9 nRSTI (in), 10 GND1 (power), 11 VREF, 12 VOUT LDO3 (out), 13 VOUT LDO4 (out), 14 VIN LDO4 (power), 15 VIN BUBATT (power), 16 VOUT LDO_RTC (power), 17 nBATT_FLT (out), 18 PGND2 (power), 19 SW2 (power), 20 VIN BUCK2 (power), 21 SDA (io), 22 SCL (in), 23 FB2 (in), 24 nRSTO (out), 25 VOUT LDO5 (out), 26 VIN LDO5 (power), 27 VDDA (power), 28 FB3 (in), 29 GPIO1/nCHG_EN (io), 30 GPIO2 (io), 31 VIN BUCK3 (power), 32 SW3 (power), 33 PGND3 (power), 34 BGND1,2,3 (power), 35 SYNC (in), 36 SYS_EN (in), 37 PWR_EN (in), 38 PGND1 (power), 39 SW1 (power), 40 VIN BUCK1 (power), 41 DAP (power)

## LP3971SQ-F211
designator U?
Power Management Unit for Advanced Application Processor, 40-pin LLP; PartNumber: LP3971SQ-F211; Manufacturer: National Semiconductor; PackageTopMarking: NS*UZXYTT*71-F211; PowerWise: N; CompType: MiscPower; High-Reliability: Y; DatasheetVersion: Oct-2008; PackageVersion: revB, Jul-2004; PackageReference: SQF40A; PackageDescription: LLP, Quad, 5 x 5 x 0.8mm Body, 40 Lead, 0.4mm Pitch, 3.6 x 3.6mm Exposed Pad; RoHS: N; PinCount: 40; ComponentLink1Description: Manufacturer URL; ComponentLink1URL: http://www.national.com/; ComponentLink2Description: LP3971 Datasheet; ComponentLink2URL: http://www.national.com/ds/LP/LP3971.pdf; ComponentLink3Description: LP3971 Web Page; ComponentLink3URL: http://www.national.com/pf/LP/LP3971.html; ComponentLink4Description: SQF40A Package Page; ComponentLink4URL: http://www.national.com/packaging/folders/sqf40a.html
footprint SQF40A (QFN, 41-Leads, Body 5x5mm, Pitch 0.4mm, Thermal Pad 3.6x3.6mm, NSC Recommended)
pins: 1 PWR_ON (in), 2 nTEST_JIG (in), 3 SPARE (in), 4 EXT_WAKEUP (out), 5 FB1 (in), 6 VIN (power), 7 VOUT LDO1 (out), 8 VOUT LDO2 (out), 9 nRSTI (in), 10 GND1 (power), 11 VREF, 12 VOUT LDO3 (out), 13 VOUT LDO4 (out), 14 VIN LDO4 (power), 15 VIN BUBATT (power), 16 VOUT LDO_RTC (power), 17 nBATT_FLT (out), 18 PGND2 (power), 19 SW2 (power), 20 VIN BUCK2 (power), 21 SDA (io), 22 SCL (in), 23 FB2 (in), 24 nRSTO (out), 25 VOUT LDO5 (out), 26 VIN LDO5 (power), 27 VDDA (power), 28 FB3 (in), 29 GPIO1/nCHG_EN (io), 30 GPIO2 (io), 31 VIN BUCK3 (power), 32 SW3 (power), 33 PGND3 (power), 34 BGND1,2,3 (power), 35 SYNC (in), 36 SYS_EN (in), 37 PWR_EN (in), 38 PGND1 (power), 39 SW1 (power), 40 VIN BUCK1 (power), 41 DAP (power)

## LP3971SQ-F211/NOPB
designator U?
Power Management Unit for Advanced Application Processors, 40-pin LLP, Pb-Free; PartNumber: LP3971SQ-F211/NOPB; Manufacturer: National Semiconductor; PackageTopMarking: NS*UZXYTT*71-F211; PowerWise: N; CompType: MiscPower; High-Reliability: Y; DatasheetVersion: Oct-2008; PackageVersion: revB, Jul-2004; PackageReference: SQF40A; PackageDescription: LLP, Quad, 5 x 5 x 0.8mm Body, 40 Lead, 0.4mm Pitch, 3.6 x 3.6mm Exposed Pad; RoHS: Y; PinCount: 40; ComponentLink1Description: Manufacturer URL; ComponentLink1URL: http://www.national.com/; ComponentLink2Description: LP3971 Datasheet; ComponentLink2URL: http://www.national.com/ds/LP/LP3971.pdf; ComponentLink3Description: LP3971 Web Page; ComponentLink3URL: http://www.national.com/pf/LP/LP3971.html; ComponentLink4Description: SQF40A Package Page; ComponentLink4URL: http://www.national.com/packaging/folders/sqf40a.html
footprint SQF40A (QFN, 41-Leads, Body 5x5mm, Pitch 0.4mm, Thermal Pad 3.6x3.6mm, NSC Recommended)
pins: 1 PWR_ON (in), 2 nTEST_JIG (in), 3 SPARE (in), 4 EXT_WAKEUP (out), 5 FB1 (in), 6 VIN (power), 7 VOUT LDO1 (out), 8 VOUT LDO2 (out), 9 nRSTI (in), 10 GND1 (power), 11 VREF, 12 VOUT LDO3 (out), 13 VOUT LDO4 (out), 14 VIN LDO4 (power), 15 VIN BUBATT (power), 16 VOUT LDO_RTC (power), 17 nBATT_FLT (out), 18 PGND2 (power), 19 SW2 (power), 20 VIN BUCK2 (power), 21 SDA (io), 22 SCL (in), 23 FB2 (in), 24 nRSTO (out), 25 VOUT LDO5 (out), 26 VIN LDO5 (power), 27 VDDA (power), 28 FB3 (in), 29 GPIO1/nCHG_EN (io), 30 GPIO2 (io), 31 VIN BUCK3 (power), 32 SW3 (power), 33 PGND3 (power), 34 BGND1,2,3 (power), 35 SYNC (in), 36 SYS_EN (in), 37 PWR_EN (in), 38 PGND1 (power), 39 SW1 (power), 40 VIN BUCK1 (power), 41 DAP (power)

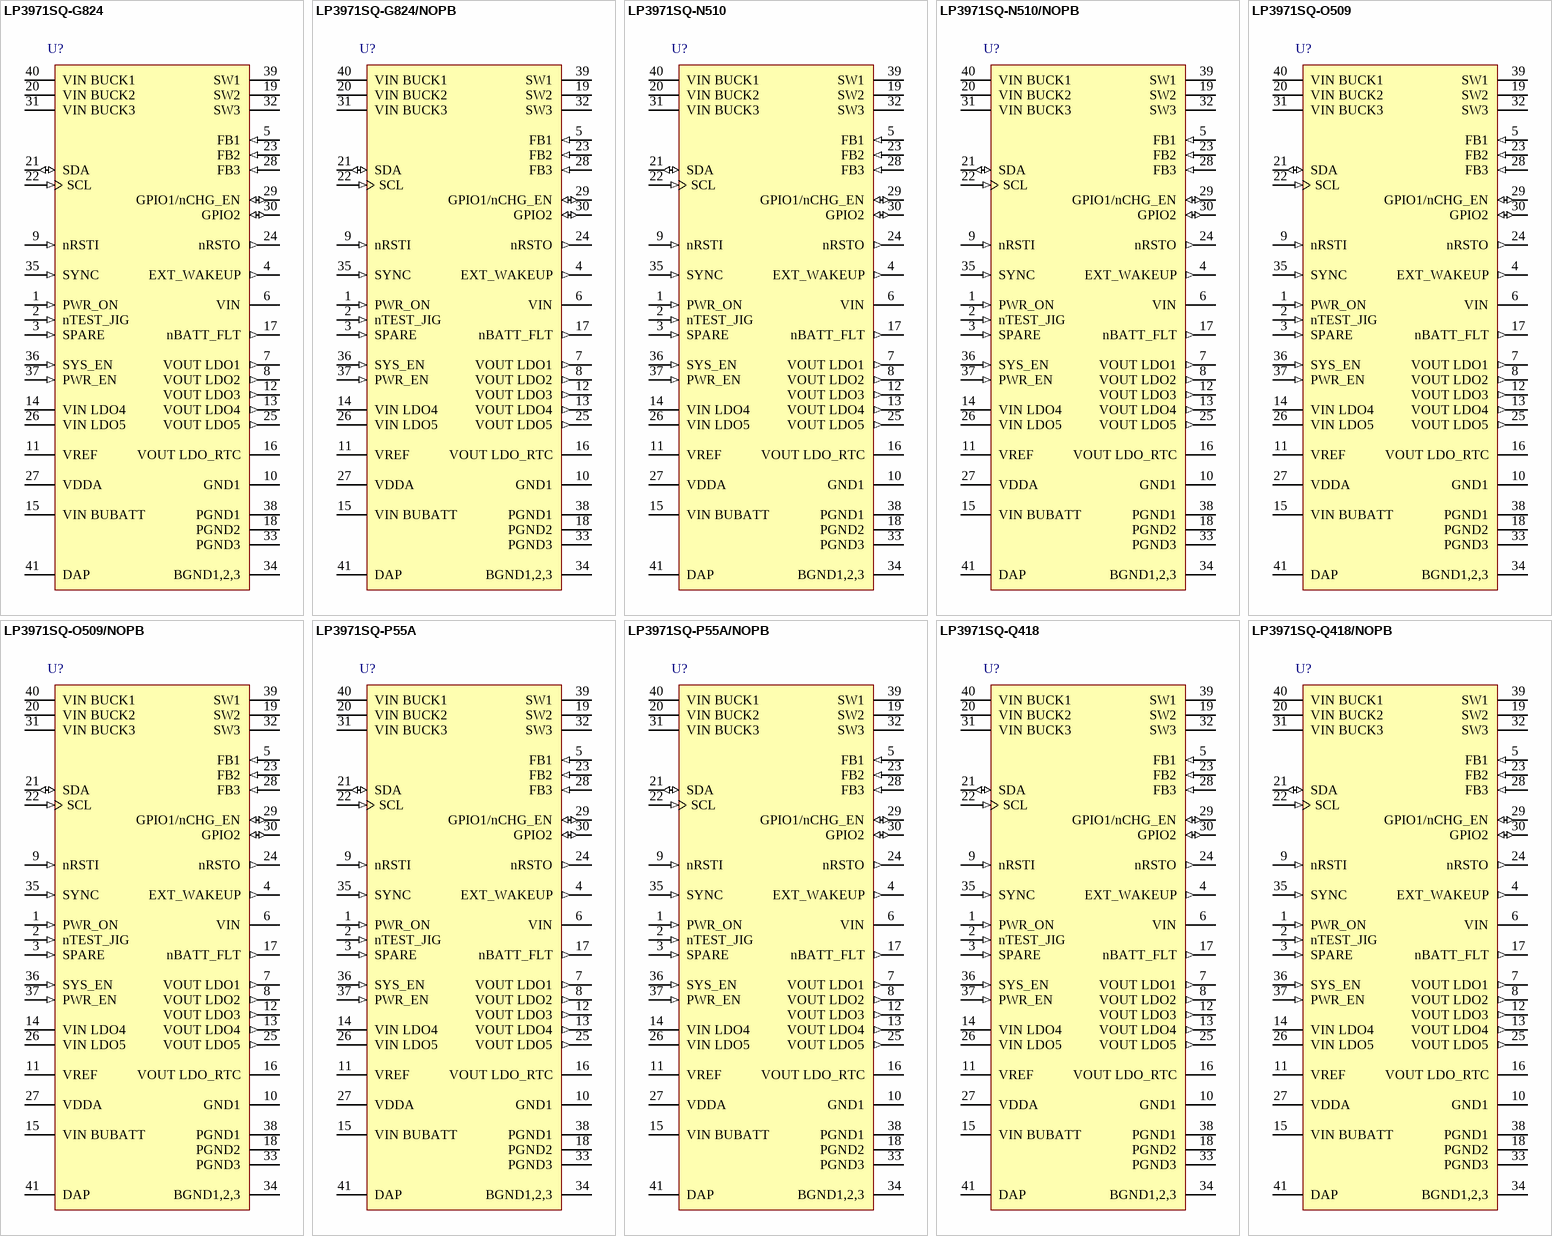
[diagram p49: symbols LP3971SQ-G824 to LP3971SQ-Q418/NOPB]

## LP3971SQ-G824
designator U?
Power Management Unit for Advanced Application Processor, 40-pin LLP; PartNumber: LP3971SQ-G824; Manufacturer: National Semiconductor; PackageTopMarking: NS*UZXYTT*71-G824; PowerWise: N; CompType: MiscPower; High-Reliability: Y; DatasheetVersion: Oct-2008; PackageVersion: revB, Jul-2004; PackageReference: SQF40A; PackageDescription: LLP, Quad, 5 x 5 x 0.8mm Body, 40 Lead, 0.4mm Pitch, 3.6 x 3.6mm Exposed Pad; RoHS: Y; PinCount: 40; ComponentLink1Description: Manufacturer URL; ComponentLink1URL: http://www.national.com/; ComponentLink2Description: LP3971 Datasheet; ComponentLink2URL: http://www.national.com/ds/LP/LP3971.pdf; ComponentLink3Description: LP3971 Web Page; ComponentLink3URL: http://www.national.com/pf/LP/LP3971.html; ComponentLink4Description: SQF40A Package Page; ComponentLink4URL: http://www.national.com/packaging/folders/sqf40a.html
footprint SQF40A (QFN, 41-Leads, Body 5x5mm, Pitch 0.4mm, Thermal Pad 3.6x3.6mm, NSC Recommended)
pins: 1 PWR_ON (in), 2 nTEST_JIG (in), 3 SPARE (in), 4 EXT_WAKEUP (out), 5 FB1 (in), 6 VIN (power), 7 VOUT LDO1 (out), 8 VOUT LDO2 (out), 9 nRSTI (in), 10 GND1 (power), 11 VREF, 12 VOUT LDO3 (out), 13 VOUT LDO4 (out), 14 VIN LDO4 (power), 15 VIN BUBATT (power), 16 VOUT LDO_RTC (power), 17 nBATT_FLT (out), 18 PGND2 (power), 19 SW2 (power), 20 VIN BUCK2 (power), 21 SDA (io), 22 SCL (in), 23 FB2 (in), 24 nRSTO (out), 25 VOUT LDO5 (out), 26 VIN LDO5 (power), 27 VDDA (power), 28 FB3 (in), 29 GPIO1/nCHG_EN (io), 30 GPIO2 (io), 31 VIN BUCK3 (power), 32 SW3 (power), 33 PGND3 (power), 34 BGND1,2,3 (power), 35 SYNC (in), 36 SYS_EN (in), 37 PWR_EN (in), 38 PGND1 (power), 39 SW1 (power), 40 VIN BUCK1 (power), 41 DAP (power)

## LP3971SQ-G824/NOPB
designator U?
Power Management Unit for Advanced Application Processors, 40-pin LLP, Pb-Free; PartNumber: LP3971SQ-G824/NOPB; Manufacturer: National Semiconductor; PackageTopMarking: NS*UZXYTT*71-G824; PowerWise: N; CompType: MiscPower; High-Reliability: Y; DatasheetVersion: Oct-2008; PackageVersion: revB, Jul-2004; PackageReference: SQF40A; PackageDescription: LLP, Quad, 5 x 5 x 0.8mm Body, 40 Lead, 0.4mm Pitch, 3.6 x 3.6mm Exposed Pad; RoHS: Y; PinCount: 40; ComponentLink1Description: Manufacturer URL; ComponentLink1URL: http://www.national.com/; ComponentLink2Description: LP3971 Datasheet; ComponentLink2URL: http://www.national.com/ds/LP/LP3971.pdf; ComponentLink3Description: LP3971 Web Page; ComponentLink3URL: http://www.national.com/pf/LP/LP3971.html; ComponentLink4Description: SQF40A Package Page; ComponentLink4URL: http://www.national.com/packaging/folders/sqf40a.html
footprint SQF40A (QFN, 41-Leads, Body 5x5mm, Pitch 0.4mm, Thermal Pad 3.6x3.6mm, NSC Recommended)
pins: 1 PWR_ON (in), 2 nTEST_JIG (in), 3 SPARE (in), 4 EXT_WAKEUP (out), 5 FB1 (in), 6 VIN (power), 7 VOUT LDO1 (out), 8 VOUT LDO2 (out), 9 nRSTI (in), 10 GND1 (power), 11 VREF, 12 VOUT LDO3 (out), 13 VOUT LDO4 (out), 14 VIN LDO4 (power), 15 VIN BUBATT (power), 16 VOUT LDO_RTC (power), 17 nBATT_FLT (out), 18 PGND2 (power), 19 SW2 (power), 20 VIN BUCK2 (power), 21 SDA (io), 22 SCL (in), 23 FB2 (in), 24 nRSTO (out), 25 VOUT LDO5 (out), 26 VIN LDO5 (power), 27 VDDA (power), 28 FB3 (in), 29 GPIO1/nCHG_EN (io), 30 GPIO2 (io), 31 VIN BUCK3 (power), 32 SW3 (power), 33 PGND3 (power), 34 BGND1,2,3 (power), 35 SYNC (in), 36 SYS_EN (in), 37 PWR_EN (in), 38 PGND1 (power), 39 SW1 (power), 40 VIN BUCK1 (power), 41 DAP (power)

## LP3971SQ-N510
designator U?
Power Management Unit for Advanced Application Processor, 40-pin LLP; PartNumber: LP3971SQ-N510; Manufacturer: National Semiconductor; PackageTopMarking: NS*UZXYTT*71-N510; PowerWise: N; CompType: MiscPower; High-Reliability: Y; DatasheetVersion: Oct-2008; PackageVersion: revB, Jul-2004; PackageReference: SQF40A; PackageDescription: LLP, Quad, 5 x 5 x 0.8mm Body, 40 Lead, 0.4mm Pitch, 3.6 x 3.6mm Exposed Pad; RoHS: Y; PinCount: 40; ComponentLink1Description: Manufacturer URL; ComponentLink1URL: http://www.national.com/; ComponentLink2Description: LP3971 Datasheet; ComponentLink2URL: http://www.national.com/ds/LP/LP3971.pdf; ComponentLink3Description: LP3971 Web Page; ComponentLink3URL: http://www.national.com/pf/LP/LP3971.html; ComponentLink4Description: SQF40A Package Page; ComponentLink4URL: http://www.national.com/packaging/folders/sqf40a.html
footprint SQF40A (QFN, 41-Leads, Body 5x5mm, Pitch 0.4mm, Thermal Pad 3.6x3.6mm, NSC Recommended)
pins: 1 PWR_ON (in), 2 nTEST_JIG (in), 3 SPARE (in), 4 EXT_WAKEUP (out), 5 FB1 (in), 6 VIN (power), 7 VOUT LDO1 (out), 8 VOUT LDO2 (out), 9 nRSTI (in), 10 GND1 (power), 11 VREF, 12 VOUT LDO3 (out), 13 VOUT LDO4 (out), 14 VIN LDO4 (power), 15 VIN BUBATT (power), 16 VOUT LDO_RTC (power), 17 nBATT_FLT (out), 18 PGND2 (power), 19 SW2 (power), 20 VIN BUCK2 (power), 21 SDA (io), 22 SCL (in), 23 FB2 (in), 24 nRSTO (out), 25 VOUT LDO5 (out), 26 VIN LDO5 (power), 27 VDDA (power), 28 FB3 (in), 29 GPIO1/nCHG_EN (io), 30 GPIO2 (io), 31 VIN BUCK3 (power), 32 SW3 (power), 33 PGND3 (power), 34 BGND1,2,3 (power), 35 SYNC (in), 36 SYS_EN (in), 37 PWR_EN (in), 38 PGND1 (power), 39 SW1 (power), 40 VIN BUCK1 (power), 41 DAP (power)

## LP3971SQ-N510/NOPB
designator U?
Power Management Unit for Advanced Application Processors, 40-pin LLP, Pb-Free; PartNumber: LP3971SQ-N510/NOPB; Manufacturer: National Semiconductor; PackageTopMarking: NS*UZXYTT*71-N510; PowerWise: N; CompType: MiscPower; High-Reliability: Y; DatasheetVersion: Oct-2008; PackageVersion: revB, Jul-2004; PackageReference: SQF40A; PackageDescription: LLP, Quad, 5 x 5 x 0.8mm Body, 40 Lead, 0.4mm Pitch, 3.6 x 3.6mm Exposed Pad; RoHS: Y; PinCount: 40; ComponentLink1Description: Manufacturer URL; ComponentLink1URL: http://www.national.com/; ComponentLink2Description: LP3971 Datasheet; ComponentLink2URL: http://www.national.com/ds/LP/LP3971.pdf; ComponentLink3Description: LP3971 Web Page; ComponentLink3URL: http://www.national.com/pf/LP/LP3971.html; ComponentLink4Description: SQF40A Package Page; ComponentLink4URL: http://www.national.com/packaging/folders/sqf40a.html
footprint SQF40A (QFN, 41-Leads, Body 5x5mm, Pitch 0.4mm, Thermal Pad 3.6x3.6mm, NSC Recommended)
pins: 1 PWR_ON (in), 2 nTEST_JIG (in), 3 SPARE (in), 4 EXT_WAKEUP (out), 5 FB1 (in), 6 VIN (power), 7 VOUT LDO1 (out), 8 VOUT LDO2 (out), 9 nRSTI (in), 10 GND1 (power), 11 VREF, 12 VOUT LDO3 (out), 13 VOUT LDO4 (out), 14 VIN LDO4 (power), 15 VIN BUBATT (power), 16 VOUT LDO_RTC (power), 17 nBATT_FLT (out), 18 PGND2 (power), 19 SW2 (power), 20 VIN BUCK2 (power), 21 SDA (io), 22 SCL (in), 23 FB2 (in), 24 nRSTO (out), 25 VOUT LDO5 (out), 26 VIN LDO5 (power), 27 VDDA (power), 28 FB3 (in), 29 GPIO1/nCHG_EN (io), 30 GPIO2 (io), 31 VIN BUCK3 (power), 32 SW3 (power), 33 PGND3 (power), 34 BGND1,2,3 (power), 35 SYNC (in), 36 SYS_EN (in), 37 PWR_EN (in), 38 PGND1 (power), 39 SW1 (power), 40 VIN BUCK1 (power), 41 DAP (power)

## LP3971SQ-O509
designator U?
Power Management Unit for Advanced Application Processor, 40-pin LLP; PartNumber: LP3971SQ-O509; Manufacturer: National Semiconductor; PackageTopMarking: NS*UZXYTT*71-O509; PowerWise: N; CompType: MiscPower; High-Reliability: Y; DatasheetVersion: Oct-2008; PackageVersion: revB, Jul-2004; PackageReference: SQF40A; PackageDescription: LLP, Quad, 5 x 5 x 0.8mm Body, 40 Lead, 0.4mm Pitch, 3.6 x 3.6mm Exposed Pad; RoHS: Y; PinCount: 40; ComponentLink1Description: Manufacturer URL; ComponentLink1URL: http://www.national.com/; ComponentLink2Description: LP3971 Datasheet; ComponentLink2URL: http://www.national.com/ds/LP/LP3971.pdf; ComponentLink3Description: LP3971 Web Page; ComponentLink3URL: http://www.national.com/pf/LP/LP3971.html; ComponentLink4Description: SQF40A Package Page; ComponentLink4URL: http://www.national.com/packaging/folders/sqf40a.html
footprint SQF40A (QFN, 41-Leads, Body 5x5mm, Pitch 0.4mm, Thermal Pad 3.6x3.6mm, NSC Recommended)
pins: 1 PWR_ON (in), 2 nTEST_JIG (in), 3 SPARE (in), 4 EXT_WAKEUP (out), 5 FB1 (in), 6 VIN (power), 7 VOUT LDO1 (out), 8 VOUT LDO2 (out), 9 nRSTI (in), 10 GND1 (power), 11 VREF, 12 VOUT LDO3 (out), 13 VOUT LDO4 (out), 14 VIN LDO4 (power), 15 VIN BUBATT (power), 16 VOUT LDO_RTC (power), 17 nBATT_FLT (out), 18 PGND2 (power), 19 SW2 (power), 20 VIN BUCK2 (power), 21 SDA (io), 22 SCL (in), 23 FB2 (in), 24 nRSTO (out), 25 VOUT LDO5 (out), 26 VIN LDO5 (power), 27 VDDA (power), 28 FB3 (in), 29 GPIO1/nCHG_EN (io), 30 GPIO2 (io), 31 VIN BUCK3 (power), 32 SW3 (power), 33 PGND3 (power), 34 BGND1,2,3 (power), 35 SYNC (in), 36 SYS_EN (in), 37 PWR_EN (in), 38 PGND1 (power), 39 SW1 (power), 40 VIN BUCK1 (power), 41 DAP (power)

## LP3971SQ-O509/NOPB
designator U?
Power Management Unit for Advanced Application Processors, 40-pin LLP, Pb-Free; PartNumber: LP3971SQ-O509/NOPB; Manufacturer: National Semiconductor; PackageTopMarking: NS*UZXYTT*71-O509; PowerWise: N; CompType: MiscPower; High-Reliability: Y; DatasheetVersion: Oct-2008; PackageVersion: revB, Jul-2004; PackageReference: SQF40A; PackageDescription: LLP, Quad, 5 x 5 x 0.8mm Body, 40 Lead, 0.4mm Pitch, 3.6 x 3.6mm Exposed Pad; RoHS: Y; PinCount: 40; ComponentLink1Description: Manufacturer URL; ComponentLink1URL: http://www.national.com/; ComponentLink2Description: LP3971 Datasheet; ComponentLink2URL: http://www.national.com/ds/LP/LP3971.pdf; ComponentLink3Description: LP3971 Web Page; ComponentLink3URL: http://www.national.com/pf/LP/LP3971.html; ComponentLink4Description: SQF40A Package Page; ComponentLink4URL: http://www.national.com/packaging/folders/sqf40a.html
footprint SQF40A (QFN, 41-Leads, Body 5x5mm, Pitch 0.4mm, Thermal Pad 3.6x3.6mm, NSC Recommended)
pins: 1 PWR_ON (in), 2 nTEST_JIG (in), 3 SPARE (in), 4 EXT_WAKEUP (out), 5 FB1 (in), 6 VIN (power), 7 VOUT LDO1 (out), 8 VOUT LDO2 (out), 9 nRSTI (in), 10 GND1 (power), 11 VREF, 12 VOUT LDO3 (out), 13 VOUT LDO4 (out), 14 VIN LDO4 (power), 15 VIN BUBATT (power), 16 VOUT LDO_RTC (power), 17 nBATT_FLT (out), 18 PGND2 (power), 19 SW2 (power), 20 VIN BUCK2 (power), 21 SDA (io), 22 SCL (in), 23 FB2 (in), 24 nRSTO (out), 25 VOUT LDO5 (out), 26 VIN LDO5 (power), 27 VDDA (power), 28 FB3 (in), 29 GPIO1/nCHG_EN (io), 30 GPIO2 (io), 31 VIN BUCK3 (power), 32 SW3 (power), 33 PGND3 (power), 34 BGND1,2,3 (power), 35 SYNC (in), 36 SYS_EN (in), 37 PWR_EN (in), 38 PGND1 (power), 39 SW1 (power), 40 VIN BUCK1 (power), 41 DAP (power)

## LP3971SQ-P55A
designator U?
Power Management Unit for Advanced Application Processor, 40-pin LLP; PartNumber: LP3971SQ-P55A; Manufacturer: National Semiconductor; PackageTopMarking: NS*UZXYTT*71-P55A; PowerWise: N; CompType: MiscPower; High-Reliability: Y; DatasheetVersion: Oct-2008; PackageVersion: revB, Jul-2004; PackageReference: SQF40A; PackageDescription: LLP, Quad, 5 x 5 x 0.8mm Body, 40 Lead, 0.4mm Pitch, 3.6 x 3.6mm Exposed Pad; RoHS: Y; PinCount: 40; ComponentLink1Description: Manufacturer URL; ComponentLink1URL: http://www.national.com/; ComponentLink2Description: LP3971 Datasheet; ComponentLink2URL: http://www.national.com/ds/LP/LP3971.pdf; ComponentLink3Description: LP3971 Web Page; ComponentLink3URL: http://www.national.com/pf/LP/LP3971.html; ComponentLink4Description: SQF40A Package Page; ComponentLink4URL: http://www.national.com/packaging/folders/sqf40a.html
footprint SQF40A (QFN, 41-Leads, Body 5x5mm, Pitch 0.4mm, Thermal Pad 3.6x3.6mm, NSC Recommended)
pins: 1 PWR_ON (in), 2 nTEST_JIG (in), 3 SPARE (in), 4 EXT_WAKEUP (out), 5 FB1 (in), 6 VIN (power), 7 VOUT LDO1 (out), 8 VOUT LDO2 (out), 9 nRSTI (in), 10 GND1 (power), 11 VREF, 12 VOUT LDO3 (out), 13 VOUT LDO4 (out), 14 VIN LDO4 (power), 15 VIN BUBATT (power), 16 VOUT LDO_RTC (power), 17 nBATT_FLT (out), 18 PGND2 (power), 19 SW2 (power), 20 VIN BUCK2 (power), 21 SDA (io), 22 SCL (in), 23 FB2 (in), 24 nRSTO (out), 25 VOUT LDO5 (out), 26 VIN LDO5 (power), 27 VDDA (power), 28 FB3 (in), 29 GPIO1/nCHG_EN (io), 30 GPIO2 (io), 31 VIN BUCK3 (power), 32 SW3 (power), 33 PGND3 (power), 34 BGND1,2,3 (power), 35 SYNC (in), 36 SYS_EN (in), 37 PWR_EN (in), 38 PGND1 (power), 39 SW1 (power), 40 VIN BUCK1 (power), 41 DAP (power)

## LP3971SQ-P55A/NOPB
designator U?
Power Management Unit for Advanced Application Processors, 40-pin LLP, Pb-Free; PartNumber: LP3971SQ-P55A/NOPB; Manufacturer: National Semiconductor; PackageTopMarking: NS*UZXYTT*71-P55A; PowerWise: N; CompType: MiscPower; High-Reliability: Y; DatasheetVersion: Oct-2008; PackageVersion: revB, Jul-2004; PackageReference: SQF40A; PackageDescription: LLP, Quad, 5 x 5 x 0.8mm Body, 40 Lead, 0.4mm Pitch, 3.6 x 3.6mm Exposed Pad; RoHS: Y; PinCount: 40; ComponentLink1Description: Manufacturer URL; ComponentLink1URL: http://www.national.com/; ComponentLink2Description: LP3971 Datasheet; ComponentLink2URL: http://www.national.com/ds/LP/LP3971.pdf; ComponentLink3Description: LP3971 Web Page; ComponentLink3URL: http://www.national.com/pf/LP/LP3971.html; ComponentLink4Description: SQF40A Package Page; ComponentLink4URL: http://www.national.com/packaging/folders/sqf40a.html
footprint SQF40A (QFN, 41-Leads, Body 5x5mm, Pitch 0.4mm, Thermal Pad 3.6x3.6mm, NSC Recommended)
pins: 1 PWR_ON (in), 2 nTEST_JIG (in), 3 SPARE (in), 4 EXT_WAKEUP (out), 5 FB1 (in), 6 VIN (power), 7 VOUT LDO1 (out), 8 VOUT LDO2 (out), 9 nRSTI (in), 10 GND1 (power), 11 VREF, 12 VOUT LDO3 (out), 13 VOUT LDO4 (out), 14 VIN LDO4 (power), 15 VIN BUBATT (power), 16 VOUT LDO_RTC (power), 17 nBATT_FLT (out), 18 PGND2 (power), 19 SW2 (power), 20 VIN BUCK2 (power), 21 SDA (io), 22 SCL (in), 23 FB2 (in), 24 nRSTO (out), 25 VOUT LDO5 (out), 26 VIN LDO5 (power), 27 VDDA (power), 28 FB3 (in), 29 GPIO1/nCHG_EN (io), 30 GPIO2 (io), 31 VIN BUCK3 (power), 32 SW3 (power), 33 PGND3 (power), 34 BGND1,2,3 (power), 35 SYNC (in), 36 SYS_EN (in), 37 PWR_EN (in), 38 PGND1 (power), 39 SW1 (power), 40 VIN BUCK1 (power), 41 DAP (power)

## LP3971SQ-Q418
designator U?
Power Management Unit for Advanced Application Processor, 40-pin LLP; PartNumber: LP3971SQ-Q418; Manufacturer: National Semiconductor; PackageTopMarking: NS*UZXYTT*71-Q418; PowerWise: N; CompType: MiscPower; High-Reliability: Y; DatasheetVersion: Oct-2008; PackageVersion: revB, Jul-2004; PackageReference: SQF40A; PackageDescription: LLP, Quad, 5 x 5 x 0.8mm Body, 40 Lead, 0.4mm Pitch, 3.6 x 3.6mm Exposed Pad; RoHS: Y; PinCount: 40; ComponentLink1Description: Manufacturer URL; ComponentLink1URL: http://www.national.com/; ComponentLink2Description: LP3971 Datasheet; ComponentLink2URL: http://www.national.com/ds/LP/LP3971.pdf; ComponentLink3Description: LP3971 Web Page; ComponentLink3URL: http://www.national.com/pf/LP/LP3971.html; ComponentLink4Description: SQF40A Package Page; ComponentLink4URL: http://www.national.com/packaging/folders/sqf40a.html
footprint SQF40A (QFN, 41-Leads, Body 5x5mm, Pitch 0.4mm, Thermal Pad 3.6x3.6mm, NSC Recommended)
pins: 1 PWR_ON (in), 2 nTEST_JIG (in), 3 SPARE (in), 4 EXT_WAKEUP (out), 5 FB1 (in), 6 VIN (power), 7 VOUT LDO1 (out), 8 VOUT LDO2 (out), 9 nRSTI (in), 10 GND1 (power), 11 VREF, 12 VOUT LDO3 (out), 13 VOUT LDO4 (out), 14 VIN LDO4 (power), 15 VIN BUBATT (power), 16 VOUT LDO_RTC (power), 17 nBATT_FLT (out), 18 PGND2 (power), 19 SW2 (power), 20 VIN BUCK2 (power), 21 SDA (io), 22 SCL (in), 23 FB2 (in), 24 nRSTO (out), 25 VOUT LDO5 (out), 26 VIN LDO5 (power), 27 VDDA (power), 28 FB3 (in), 29 GPIO1/nCHG_EN (io), 30 GPIO2 (io), 31 VIN BUCK3 (power), 32 SW3 (power), 33 PGND3 (power), 34 BGND1,2,3 (power), 35 SYNC (in), 36 SYS_EN (in), 37 PWR_EN (in), 38 PGND1 (power), 39 SW1 (power), 40 VIN BUCK1 (power), 41 DAP (power)